# Altium footprint library ISM330DHCXTR.PcbLib: 3 footprints
Each footprint in its own frame and in the unit in brackets; x right, y up, seen from the top. Pads: shape width x height; smd on the part's side, far side on the other; paste and mask are expansions set on the pad; w line width, h text height; cw(c..) or ccw(c..) is an arc to the next point about the centre after c.
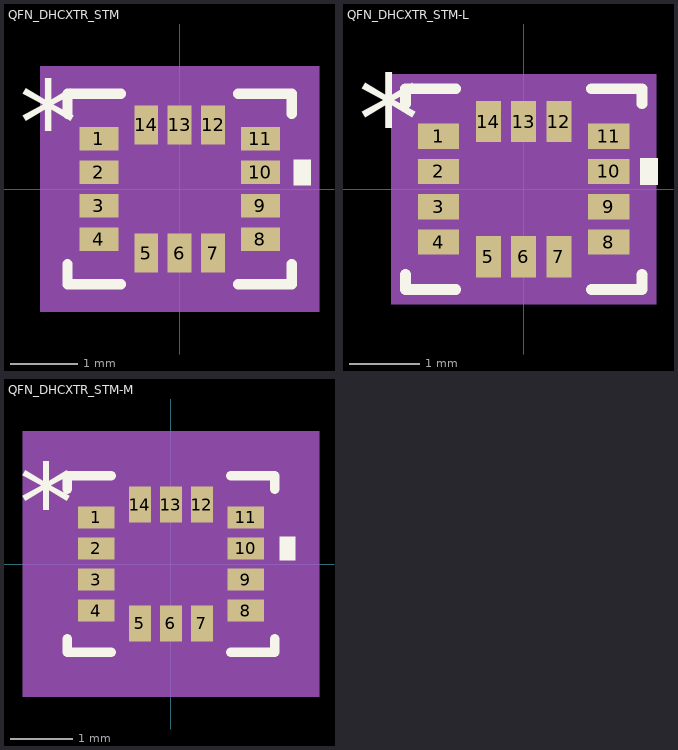
[diagram p0: the footprints below, top view; thin cyan lines are the x and y axes]

## QFN_DHCXTR_STM [mil]
pads (14):
  rect 23x14 smd paste+0 mask+4: 1(-47.5,29.54) 2(-47.5,9.85) 3(-47.5,-9.85) 4(-47.5,-29.54) 8(47.5,-29.54) 9(47.5,-9.85) 10(47.5,9.85) 11(47.5,29.54)
  rect 14x23 smd paste+0 mask+4: 5(-19.69,-37.74) 6(0,-37.74) 7(19.69,-37.74) 12(19.69,37.74) 13(0,37.74) 14(-19.69,37.74)
Top Overlay:
  region: 67,17.34 77,17.34 77,2.35 67,2.35
  lines w6: -66,-44.05 -66,-56 -34.43,-56 ; -66,44.05 -66,56 -34.43,56 ; 34.43,-56 66,-56 66,-44.05 ; 34.43,56 66,56 66,44.05
  text "*" at -94.5,14.38 h50
Mechanical 5:
  region: 82,-72.24 -82,-72.24 -82,72.24 82,72.24
Mechanical 13:
  lines w1: -61,1 -11,51 ; -61,-51 61,-51 ; -61,-51 -61,51 ; -61,-51 -61,-51 ; -61,51 61,51 ; -61,51 -61,51 ; 61,-51 61,-51 ; 61,-51 61,51 ; 61,51 61,51 ; -61,-34.53 -61,-24.54 -57,-24.54 -57,-34.53 -61,-34.53 ; -61,-14.85 -61,-4.84 -57,-4.84 -57,-14.85 -61,-14.85 ; -61,4.84 -61,14.85 -57,14.85 -57,4.84 -61,4.84 ; -61,24.54 -61,34.53 -57,34.53 -57,24.54 -61,24.54 ; -24.69,-51 -14.69,-51 -14.69,-47.24 -24.69,-47.24 -24.69,-51 ; -24.69,47.24 -14.69,47.24 -14.69,51 -24.69,51 -24.69,47.24 ; -5,-51 5,-51 5,-47.24 -5,-47.24 -5,-51 ; -5,47.24 5,47.24 5,51 -5,51 -5,47.24 ; 14.69,-51 24.69,-51 24.69,-47.24 14.69,-47.24 14.69,-51 ; 14.69,47.24 24.69,47.24 24.69,51 14.69,51 14.69,47.24 ; 57,-34.53 61,-34.53 61,-24.54 57,-24.54 57,-34.53 ; 57,-14.85 61,-14.85 61,-4.84 57,-4.84 57,-14.85 ; 57,4.84 61,4.84 61,14.85 57,14.85 57,4.84 ; 57,24.54 61,24.54 61,34.53 57,34.53 57,24.54
  text "*" at -50.5,14.38 h50
Mechanical 15:
  region: -34.69,-61 -71,-61 -71,-44.53 -71,44.53 -71,61 -34.69,61 34.69,61 71,61 71,44.53 71,-44.53 71,-61 34.69,-61
  lines w6: -71,-44.53 -71,-61 -34.69,-61 ; -71,-44.53 -71,-44.53 ; -71,-44.53 -71,44.53 ; -71,44.53 -71,44.53 ; -71,44.53 -71,61 -34.69,61 ; -34.69,-61 34.69,-61 ; -34.69,-61 -34.69,-61 ; -34.69,61 -34.69,61 ; -34.69,61 34.69,61 ; 34.69,-61 71,-61 71,-44.53 ; 34.69,-61 34.69,-61 ; 34.69,61 34.69,61 ; 34.69,61 71,61 71,44.53 ; 71,-44.53 71,44.53 ; 71,-44.53 71,-44.53 ; 71,44.53 71,44.53
3D body "QFN_DHCXTR_STM.step": height 65.12, standoff 0, extent -60.98,-50.98 60.98,50.98

## QFN_DHCXTR_STM-L [mil]
pads (14):
  rect 23x14 smd paste+0 mask+4: 1(-47.5,29.54) 2(-47.5,9.85) 3(-47.5,-9.85) 4(-47.5,-29.54) 8(47.5,-29.54) 9(47.5,-9.85) 10(47.5,9.85) 11(47.5,29.54)
  rect 14x23 smd paste+0 mask+4: 5(-19.69,-37.74) 6(0,-37.74) 7(19.69,-37.74) 12(19.69,37.74) 13(0,37.74) 14(-19.69,37.74)
Top Overlay:
  region: 65,17.34 75,17.34 75,2.35 65,2.35
  lines w6: -66,-47.61 -66,-56 -37.91,-56 ; -66,47.61 -66,56 -37.91,56 ; 37.91,-56 66,-56 66,-47.61 ; 37.91,56 66,56 66,47.61
  text "*" at -92.5,14.38 h50
Mechanical 5:
  region: 74,-64.24 -74,-64.24 -74,64.24 74,64.24
Mechanical 13:
  lines w1: -61,1 -11,51 ; -61,-51 61,-51 ; -61,-51 -61,51 ; -61,-51 -61,-51 ; -61,51 61,51 ; -61,51 -61,51 ; 61,-51 61,-51 ; 61,-51 61,51 ; 61,51 61,51 ; -61,-34.53 -61,-24.54 -57,-24.54 -57,-34.53 -61,-34.53 ; -61,-14.85 -61,-4.84 -57,-4.84 -57,-14.85 -61,-14.85 ; -61,4.84 -61,14.85 -57,14.85 -57,4.84 -61,4.84 ; -61,24.54 -61,34.53 -57,34.53 -57,24.54 -61,24.54 ; -24.69,-51 -14.69,-51 -14.69,-47.24 -24.69,-47.24 -24.69,-51 ; -24.69,47.24 -14.69,47.24 -14.69,51 -24.69,51 -24.69,47.24 ; -5,-51 5,-51 5,-47.24 -5,-47.24 -5,-51 ; -5,47.24 5,47.24 5,51 -5,51 -5,47.24 ; 14.69,-51 24.69,-51 24.69,-47.24 14.69,-47.24 14.69,-51 ; 14.69,47.24 24.69,47.24 24.69,51 14.69,51 14.69,47.24 ; 57,-34.53 61,-34.53 61,-24.54 57,-24.54 57,-34.53 ; 57,-14.85 61,-14.85 61,-4.84 57,-4.84 57,-14.85 ; 57,4.84 61,4.84 61,14.85 57,14.85 57,4.84 ; 57,24.54 61,24.54 61,34.53 57,34.53 57,24.54
  text "*" at -52.5,14.38 h50
Mechanical 15:
  region: -27.69,-55 -65,-55 -65,-37.53 -65,37.53 -65,55 -27.69,55 27.69,55 65,55 65,37.53 65,-37.53 65,-55 27.69,-55
  lines w6: -65,-37.53 -65,-55 -27.69,-55 ; -65,-37.53 -65,-37.53 ; -65,-37.53 -65,37.53 ; -65,37.53 -65,37.53 ; -65,37.53 -65,55 -27.69,55 ; -27.69,-55 27.69,-55 ; -27.69,-55 -27.69,-55 ; -27.69,55 -27.69,55 ; -27.69,55 27.69,55 ; 27.69,-55 65,-55 65,-37.53 ; 27.69,-55 27.69,-55 ; 27.69,55 27.69,55 ; 27.69,55 65,55 65,37.53 ; 65,-37.53 65,37.53 ; 65,-37.53 65,-37.53 ; 65,37.53 65,37.53
3D body "QFN_DHCXTR_STM.step": height 65.12, standoff 0, extent -60.98,-50.98 60.98,50.98

## QFN_DHCXTR_STM-M [mil]
pads (14):
  rect 23x14 smd paste+0 mask+4: 1(-47.5,29.54) 2(-47.5,9.85) 3(-47.5,-9.85) 4(-47.5,-29.54) 8(47.5,-29.54) 9(47.5,-9.85) 10(47.5,9.85) 11(47.5,29.54)
  rect 14x23 smd paste+0 mask+4: 5(-19.69,-37.74) 6(0,-37.74) 7(19.69,-37.74) 12(19.69,37.74) 13(0,37.74) 14(-19.69,37.74)
Top Overlay:
  region: 69,17.34 79,17.34 79,2.35 69,2.35
  lines w6: -66,-47.61 -66,-56 -37.91,-56 ; -66,47.61 -66,56 -37.91,56 ; 37.91,-56 66,-56 66,-47.61 ; 37.91,56 66,56 66,47.61
  text "*" at -96.5,14.38 h50
Mechanical 5:
  region: 94,-84.24 -94,-84.24 -94,84.24 94,84.24
Mechanical 13:
  lines w1: -61,1 -11,51 ; -61,-51 61,-51 ; -61,-51 -61,51 ; -61,-51 -61,-51 ; -61,51 61,51 ; -61,51 -61,51 ; 61,-51 61,-51 ; 61,-51 61,51 ; 61,51 61,51 ; -61,-34.53 -61,-24.54 -57,-24.54 -57,-34.53 -61,-34.53 ; -61,-14.85 -61,-4.84 -57,-4.84 -57,-14.85 -61,-14.85 ; -61,4.84 -61,14.85 -57,14.85 -57,4.84 -61,4.84 ; -61,24.54 -61,34.53 -57,34.53 -57,24.54 -61,24.54 ; -24.69,-51 -14.69,-51 -14.69,-47.24 -24.69,-47.24 -24.69,-51 ; -24.69,47.24 -14.69,47.24 -14.69,51 -24.69,51 -24.69,47.24 ; -5,-51 5,-51 5,-47.24 -5,-47.24 -5,-51 ; -5,47.24 5,47.24 5,51 -5,51 -5,47.24 ; 14.69,-51 24.69,-51 24.69,-47.24 14.69,-47.24 14.69,-51 ; 14.69,47.24 24.69,47.24 24.69,51 14.69,51 14.69,47.24 ; 57,-34.53 61,-34.53 61,-24.54 57,-24.54 57,-34.53 ; 57,-14.85 61,-14.85 61,-4.84 57,-4.84 57,-14.85 ; 57,4.84 61,4.84 61,14.85 57,14.85 57,4.84 ; 57,24.54 61,24.54 61,34.53 57,34.53 57,24.54
  text "*" at -48.5,14.38 h50
Mechanical 15:
  region: -45.69,-71 -81,-71 -81,-55.53 -81,55.53 -81,71 -45.69,71 45.69,71 81,71 81,55.53 81,-55.53 81,-71 45.69,-71
  lines w6: -81,-55.53 -81,-71 -45.69,-71 ; -81,-55.53 -81,-55.53 ; -81,-55.53 -81,55.53 ; -81,55.53 -81,55.53 ; -81,55.53 -81,71 -45.69,71 ; -45.69,-71 45.69,-71 ; -45.69,-71 -45.69,-71 ; -45.69,71 -45.69,71 ; -45.69,71 45.69,71 ; 45.69,-71 81,-71 81,-55.53 ; 45.69,-71 45.69,-71 ; 45.69,71 45.69,71 ; 45.69,71 81,71 81,55.53 ; 81,-55.53 81,55.53 ; 81,-55.53 81,-55.53 ; 81,55.53 81,55.53
3D body "QFN_DHCXTR_STM.step": height 65.12, standoff 0, extent -60.98,-50.98 60.98,50.98